# Altium schematic symbol library Buzzsaw Symbol Library.SchLib: 11 symbols
Pins are listed as number, name and electrical type; pins without a type are passive.

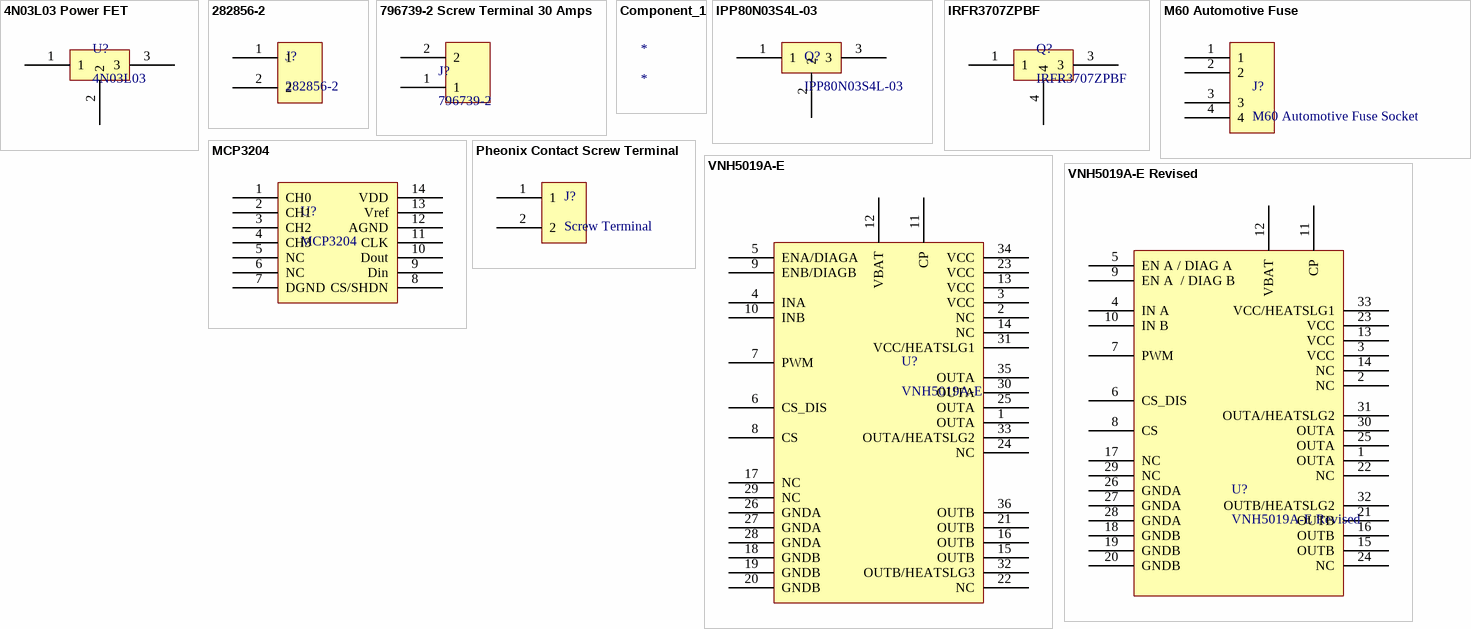
[diagram p0: symbols 4N03L03 Power FET to VNH5019A-E Revised]

## 4N03L03 Power FET
designator U?, comment 4N03L03
Power FET
footprint IPB04N03LA (Power-Transistor)
pins: 1, 2, 3

## 282856-2
designator J?
Two pole screw terminal
footprint 282856-2 (Screw Terminal  two pole)
pins: 1, 2

## 796739-2 Screw Terminal 30 Amps
designator J?, comment 796739-2
footprint 796739-2 (796739-2 30Amp Screw Terminal block)
pins: 1, 2

## Component_1
designator *

## IPP80N03S4L-03
designator Q?
Power FET TO220 Package
footprint TO-220 (TO, Thru-Hole, Vertical, Heatsink Mounted; 3 In-Line Leads; Pitch 2.54 mm)
pins: 1 "Gate", 2 "Drain", 3 "Source"

## IRFR3707ZPBF
designator Q?
Power FET
footprint IRFR3707ZPBF (Power FET)
pins: 1, 3, 4

## M60 Automotive Fuse
designator J?, comment M60 Automotive Fuse Socket
Automotive Fuse Socket
footprint M60 (Automotive Fuse Socket)
pins: 1, 2, 3, 4

## MCP3204
designator U?
MCP3204 ADC
footprint MCP3204 (SOIC, 14-Leads, Body 8.8x4.0mm (max), Pitch 1.27mm, IPC Medium Density)
pins: 1 CH0, 2 CH1, 3 CH2, 4 CH3, 5 NC, 6 NC, 7 DGND, 8 CS/SHDN, 9 Din, 10 Dout, 11 CLK, 12 AGND, 13 Vref, 14 VDD

## Pheonix Contact Screw Terminal
designator J?, comment Screw Terminal
Pheonix Contact Screw Terminal
footprint Pheonix Contact Screw Terminal
pins: 1, 2

## VNH5019A-E
designator U?
VNH5019A-E H-Bridge
footprint VNH5019A-E (STMicroelectronics VNH5019A-E H-Bridge)
footprint VNH5019A-E (STMicroelectronics VNH5019A-E H-Bridge)
pins: 1 OUTA, 2 NC, 3 VCC, 4 INA, 5 ENA/DIAGA, 6 CS_DIS, 7 PWM, 8 CS, 9 ENB/DIAGB, 10 INB, 11 CP, 12 VBAT, 13 VCC, 14 NC, 15 OUTB, 16 OUTB, 17 NC, 18 GNDB, 19 GNDB, 20 GNDB, 21 OUTB, 22 NC, 23 VCC, 24 NC, 25 OUTA, 26 GNDA, 27 GNDA, 28 GNDA, 29 NC, 30 OUTA, 31 VCC/HEATSLG1, 32 OUTB/HEATSLG3, 33 OUTA/HEATSLG2, 34 VCC, 35 OUTA, 36 OUTB

## VNH5019A-E Revised
designator U?
VNH5019A-E H-Bridge
footprint VNH5019A-E (STMicroelectronics VNH5019A-E H-Bridge)
pins: 1 OUTA, 2 NC, 3 VCC, 4 IN A, 5 EN A / DIAG A, 6 CS_DIS, 7 PWM, 8 CS, 9 EN A  / DIAG B, 10 IN B, 11 CP, 12 VBAT, 13 VCC, 14 NC, 15 OUTB, 16 OUTB, 17 NC, 18 GNDB, 19 GNDB, 20 GNDB, 21 OUTB, 22 NC, 23 VCC, 24 NC, 25 OUTA, 26 GNDA, 27 GNDA, 28 GNDA, 29 NC, 30 OUTA, 31 OUTA/HEATSLG2, 32 OUTB/HEATSLG2, 33 VCC/HEATSLG1